# EAGLE library part SN74LVC2T45 (library custom-ds)
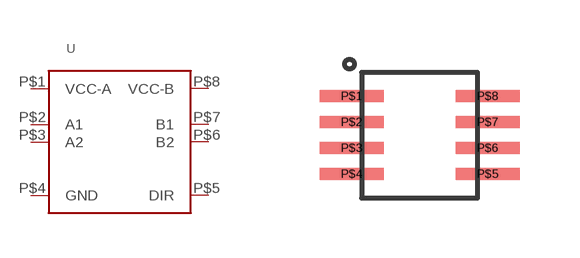
[diagram p10: symbol with the pads of SM8; footprint SM8]

Designator prefix -

## SN74LVC2T45  [SM8]
P$1  VCC-A  pwr
P$2  A1
P$3  A2
P$4  GND  pwr
P$5  DIR  in
P$6  B2
P$7  B1
P$8  VCC-B  pwr

## Footprint SM8 (pad centres in mm)
smd 1.6 x 0.3: P$1 -1.7,1; P$2 -1.7,0.35; P$3 -1.7,-0.3; P$4 -1.7,-0.95; P$5 1.7,-0.95; P$6 1.7,-0.3; P$7 1.7,0.35; P$8 1.7,1